# EAGLE library part SIM_7000 (library Eagle_CAD_parts)
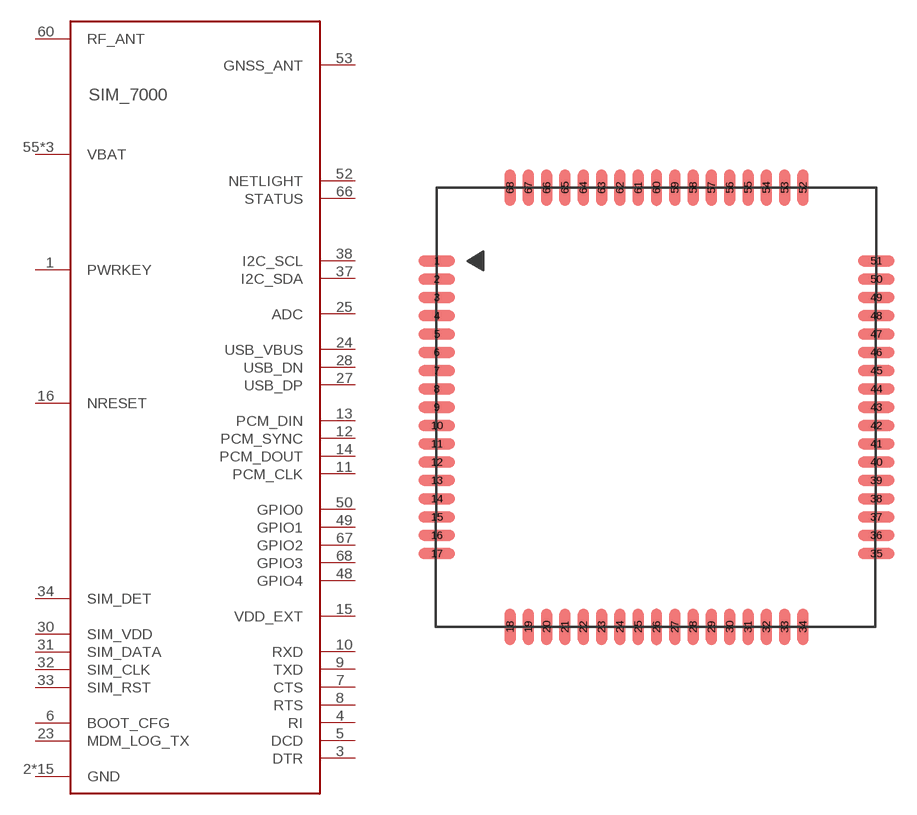
[diagram p29: symbol with the pads of SIM7000_PCKG; footprint SIM7000_PCKG]

Designator prefix -

## SIM_7000_G  [SIM7000_PCKG]
1  PWRKEY
2  GND
3  DTR
4  RI
5  DCD
6  BOOT_CFG
7  CTS
8  RTS
9  TXD
10  RXD
11  PCM_CLK
12  PCM_SYNC
13  PCM_DIN
14  PCM_DOUT
15  VDD_EXT
16  NRESET
17  GND
18  GND
23  MDM_LOG_TX
24  USB_VBUS
25  ADC
27  USB_DP
28  USB_DN
29  GND
30  SIM_VDD
31  SIM_DATA
32  SIM_CLK
33  SIM_RST
34  SIM_DET
37  I2C_SDA
38  I2C_SCL
39  GND
45  GND
46  GND
48  GPIO4
49  GPIO1
50  GPIO0
52  NETLIGHT
53  GNSS_ANT
54  GND
55  VBAT
56  VBAT
57  VBAT
58  GND
59  GND
60  RF_ANT
61  GND
62  GND
63  GND
64  GND
65  GND
66  STATUS
67  GPIO2
68  GPIO3

## Footprint SIM7000_PCKG (pad centres in mm)
smd 2 x 0.6: 1 -12,8; 2 -12,7; 3 -12,6; 4 -12,5; 5 -12,4; 6 -12,3; 7 -12,2; 8 -12,1; 9 -12,0; 10 -12,-1; 11 -12,-2; 12 -12,-3; 13 -12,-4; 14 -12,-5; 15 -12,-6; 16 -12,-7; 17 -12,-8; 35 12,-8; 36 12,-7; 37 12,-6; 38 12,-5; 39 12,-4; 40 12,-3; 41 12,-2; 42 12,-1; 43 12,0; 44 12,1; 45 12,2; 46 12,3; 47 12,4; 48 12,5; 49 12,6; 50 12,7; 51 12,8
smd 0.6 x 2: 18 -8,-12; 19 -7,-12; 20 -6,-12; 21 -5,-12; 22 -4,-12; 23 -3,-12; 24 -2,-12; 25 -1,-12; 26 0,-12; 27 1,-12; 28 2,-12; 29 3,-12; 30 4,-12; 31 5,-12; 32 6,-12; 33 7,-12; 34 8,-12; 52 8,12; 53 7,12; 54 6,12; 55 5,12; 56 4,12; 57 3,12; 58 2,12; 59 1,12; 60 0,12; 61 -1,12; 62 -2,12; 63 -3,12; 64 -4,12; 65 -5,12; 66 -6,12; 67 -7,12; 68 -8,12